# Altium schematic symbol library 1.44inch_14pin_QD14414B.SchLib: 1 symbol
Pins are listed as number, name and electrical type; pins without a type are passive.

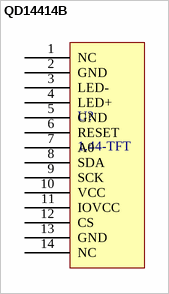
[diagram p0: symbol QD14414B]

## QD14414B
designator U?, comment 1.44-TFT
1.44 TFT LCD
pins: 1 NC, 2 GND, 3 LED-, 4 LED+, 5 GND, 6 RESET, 7 A0, 8 SDA, 9 SCK, 10 VCC, 11 IOVCC, 12 CS, 13 GND, 14 NC